# Altium schematic symbol library ATTINY412-SSN.SchLib: 1 symbol
Pins are listed as number, name and electrical type; pins without a type are passive.

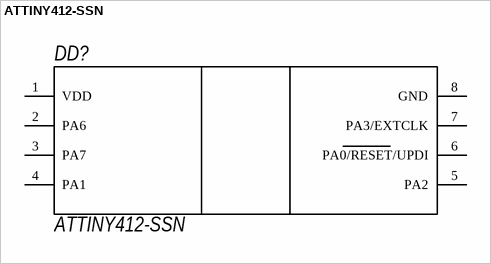
[diagram p0: symbol ATTINY412-SSN]

## ATTINY412-SSN
designator DD?
pins: 1 VDD, 2 PA6, 3 PA7, 4 PA1, 5 PA2, 6 PA0/RESET/UPDI, 7 PA3/EXTCLK, 8 GND